# Altium footprint library CONN_HDR_2MM_ST.PcbLib: 49 footprints (part 4 of 4)
Each footprint in its own frame and in the unit in brackets; x right, y up, seen from the top. Pads: shape width x height; smd on the part's side, far side on the other; paste and mask are expansions set on the pad; w line width, h text height; cw(c..) or ccw(c..) is an arc to the next point about the centre after c.
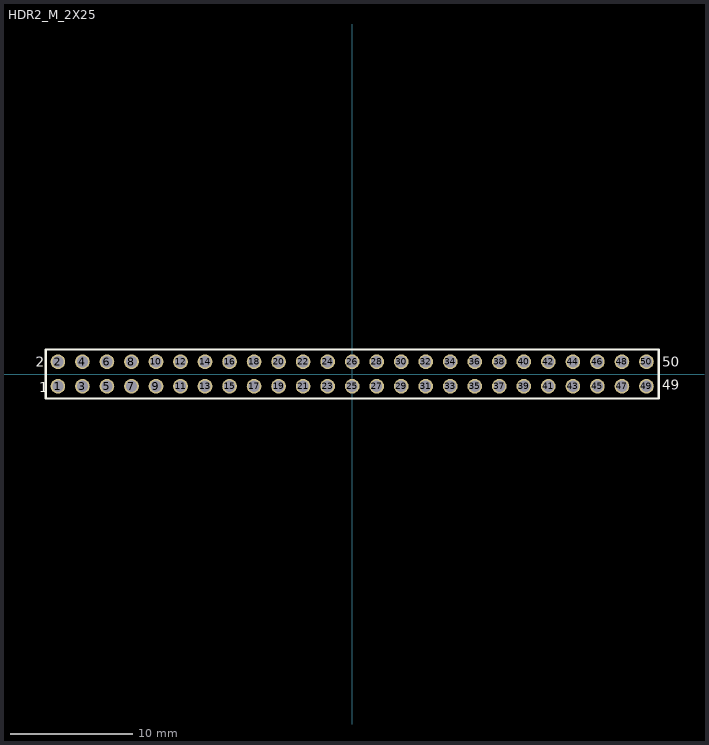
[diagram p3: the footprint, top view; thin cyan lines are the x and y axes]

## HDR2_M_2X25 [mm] "Connector; Header; 25x2 Position; 2mm Pitch"
pads (50):
  round 1.2 / inner round 1.2 / far side oval 1.2x1.6 hole 0.9: 1(-24,-1) 2(-24,1) 3(-22,-1) 4(-22,1) 5(-20,-1) 6(-20,1) 7(-18,-1) 8(-18,1) 9(-16,-1) 10(-16,1) 11(-14,-1) 12(-14,1) 13(-12,-1) 14(-12,1) 15(-10,-1) 16(-10,1) 17(-8,-1) 18(-8,1) 19(-6,-1) 20(-6,1) 21(-4,-1) 22(-4,1) 23(-2,-1) 24(-2,1) 25(0,-1) 26(0,1) 27(2,-1) 28(2,1) 29(4,-1) 30(4,1) 31(6,-1) 32(6,1) 33(8,-1) 34(8,1) 35(10,-1) 36(10,1) 37(12,-1) 38(12,1) 39(14,-1) 40(14,1) 41(16,-1) 42(16,1) 43(18,-1) 44(18,1) 45(20,-1) 46(20,1) 47(22,-1) 48(22,1) 49(24,-1) 50(24,1)
Top Overlay:
  lines w0.2: -25,-2 25,-2 25,2 -25,2 -25,-2
  text "1" at -25.5,-1.5 h0.8
  text "50" at 25.3,0.6 h0.8
  text "49" at 25.3,-1.3 h0.8
  text "2" at -25.8,0.6 h0.8
3D body "Header 2.00 mm Milli-Grid TH vert 50w.stp": height 5.75, standoff -2.35, extent -24.95,-2 24.95,2